# EAGLE library part H16106DF (library marius)
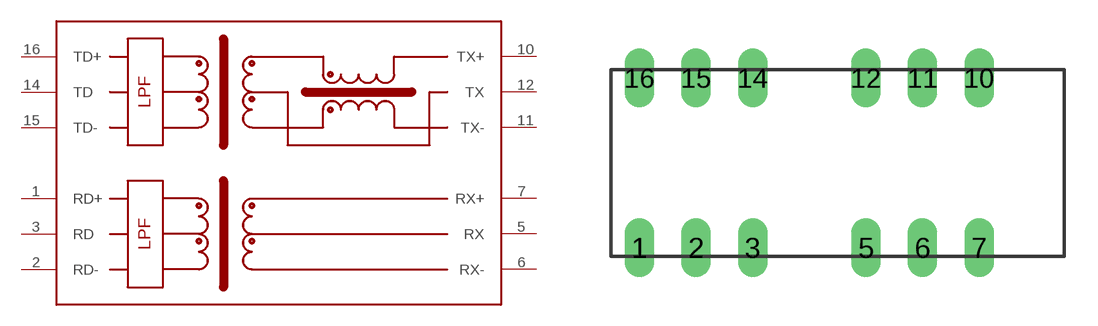
[diagram p3: symbol with the pads of DIP16-4; footprint DIP16-4]

Designator prefix -

## H16106DF  [DIP16-4]
1  RD+
2  RD-
3  RD
5  RX
6  RX-
7  RX+
10  TX+
11  TX-
12  TX
14  TD
15  TD-
16  TD+

## Footprint DIP16-4 (pad centres in mm)
drill 0.813 long: 1 -7.62,-3.81; 2 -5.08,-3.81; 3 -2.54,-3.81; 5 2.54,-3.81; 6 5.08,-3.81; 7 7.62,-3.81; 10 7.62,3.81; 11 5.08,3.81; 12 2.54,3.81; 14 -2.54,3.81; 15 -5.08,3.81; 16 -7.62,3.81